# Altium schematic symbol library 2019-06-08_05-46-33.SchLib: 2 symbols
Pins are listed as number, name and electrical type; pins without a type are passive.

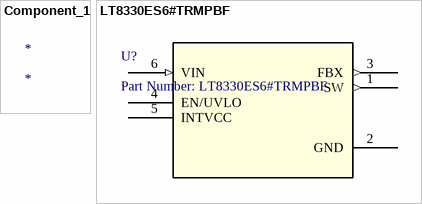
[diagram p0: symbols Component_1 to LT8330ES6#TRMPBF]

## Component_1
designator *

## LT8330ES6#TRMPBF
designator U?, comment Part Number: LT8330ES6#TRMPBF
No Description Available; Built_By: EMA_UL_Team; Vendor: Linear Technology; Manufacturer_Part_Number: LT8330ES6#TRMPBF; Copyright: Copyright (C) 2018 Accelerated Designs. All rights reserved; RefDes: RefDes; Type: DEV; Value: Value
footprint TSOT-23_S6
pins: 1 SW (out), 2 GND (power), 3 FBX (out), 4 EN/UVLO, 5 INTVCC, 6 VIN (in)